# Altium schematic symbol library Molex 533980971.Schlib: 1 symbol
Pins are listed as number, name and electrical type; pins without a type are passive.

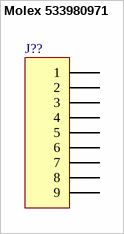
[diagram p0: symbol Molex 533980971]

## Molex 533980971
designator J??
1.25mm Pitch, PicoBlade PCB Header, Single Row, Vertical, Surface Mount; Manufacturer: Molex; Part Number: 533980971; Value: 533980971; TYPE: Connectors; ComponentLink1Description: Datasheet link; ComponentLink1URL: https://www.molex.com/molex/products/part-detail/pcb_headers/0533980371; Mount Type: SMT; RoHS: Y; Supplier 1: Mouser; Supplier Part Number 1: 538-53398-0971; Technology: Headers
footprint Molex 533980971 (1.25mm Pitch, PicoBlade PCB Header, Single Row, Vertical, Surface Mount)
pins: 1, 2, 3, 4, 5, 6, 7, 8, 9